# EAGLE library part MSP430G2X21 (library MSP430G2)
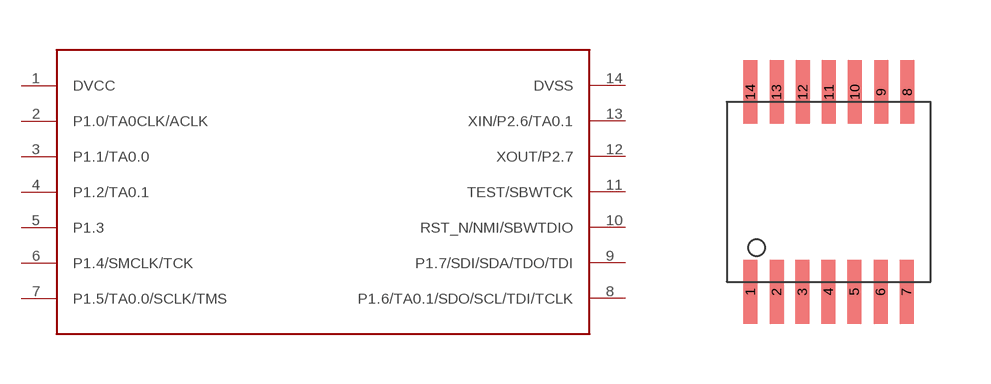
[diagram p0: symbol with the pads of MSP430G2X21; footprint MSP430G2X21]

Designator prefix -

## MSP430G2X21  [MSP430G2X21]
1  DVCC
2  P1.0/TA0CLK/ACLK
3  P1.1/TA0.0
4  P1.2/TA0.1
5  P1.3
6  P1.4/SMCLK/TCK
7  P1.5/TA0.0/SCLK/TMS
8  P1.6/TA0.1/SDO/SCL/TDI/TCLK
9  P1.7/SDI/SDA/TDO/TDI
10  RST_N/NMI/SBWTDIO
11  TEST/SBWTCK
12  XOUT/P2.7
13  XIN/P2.6/TA0.1
14  DVSS

## Footprint MSP430G2X21 (pad centres in mm)
smd 0.35 x 1.6: 1 0.595,-0.25; 2 1.25,-0.25; 3 1.895,-0.25; 4 2.545,-0.25; 5 3.195,-0.25; 6 3.85,-0.25; 7 4.5,-0.25; 8 4.52,4.75; 9 3.865,4.75; 10 3.21,4.75; 11 2.56,4.75; 12 1.905,4.75; 13 1.25,4.75; 14 0.595,4.75